# EAGLE library part ADS101X-ADC_TO_I2C (library Andy)
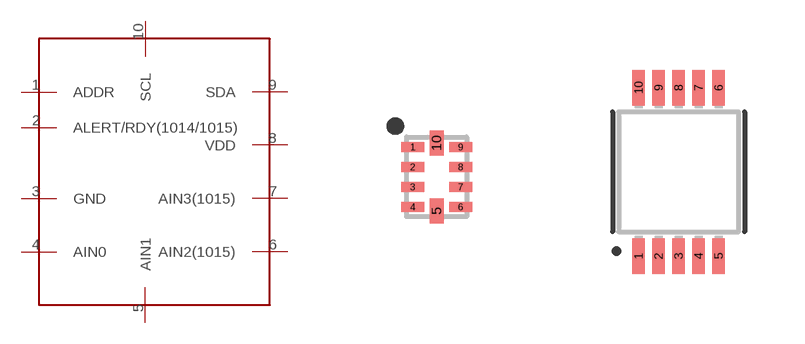
[diagram p0: symbol with the pads of QFN-10-RSE; footprints QFN-10-RSE, MSOP-10-GNDPAD]

Designator prefix -

## ADS101X-ADC_TO_I2CADS1013  [QFN-10-RSE]
1  ADDR
2  ALERT/RDY(1014/1015)
3  GND
4  AIN0
5  AIN1
6  AIN2(1015)
7  AIN3(1015)
8  VDD
9  SDA
10  SCL

## ADS101X-ADC_TO_I2CADS101X  [MSOP-10-GNDPAD]
Pads as for QFN-10-RSE

## Footprint QFN-10-RSE (pad centres in mm)
smd 0.58 x 0.25: 1 -0.6,0.75; 2 -0.6,0.25; 3 -0.6,-0.25; 4 -0.6,-0.75; 6 0.6,-0.75; 7 0.6,-0.25; 8 0.6,0.25; 9 0.6,0.75
smd 0.35 x 0.63: 5 0,-0.85; 10 0,0.85

## Footprint MSOP-10-GNDPAD (pad centres in mm)
10-lead MSOP w/ center GND pad
smd 0.305 x 0.889: 1 -1,-2.11; 2 -0.5,-2.11; 3 0,-2.11; 4 0.5,-2.11; 5 1,-2.11; 6 1,2.11; 7 0.5,2.11; 8 0,2.11; 9 -0.5,2.11; 10 -1,2.11